# Altium footprint library TSM2306CX.PcbLib: 1 footprints
Each footprint in its own frame and in the unit in brackets; x right, y up, seen from the top. Pads: shape width x height; smd on the part's side, far side on the other; paste and mask are expansions set on the pad; w line width, h text height; cw(c..) or ccw(c..) is an arc to the next point about the centre after c.
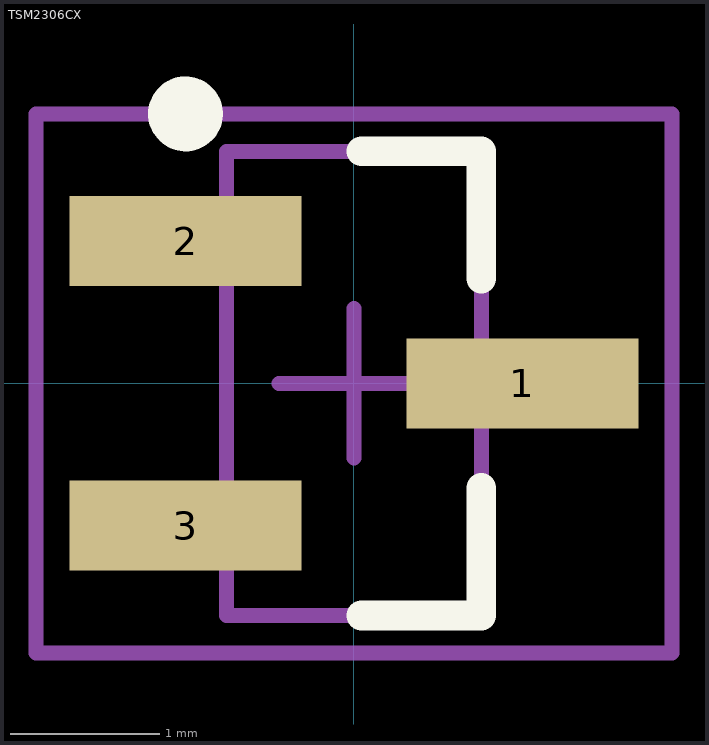
[diagram p0: the footprint, top view; thin cyan lines are the x and y axes]

## TSM2306CX [mm] "TAIWAN SEMICONDUCTOR - TSM2306CX - MOSFET,N CH,30V,3.5A,SOT23"
height 1.3
pads (3):
  rect 1.55x0.6 smd: 1(1.125,0) 2(-1.125,0.95) 3(-1.125,-0.95)
Top Overlay:
  circle w0.25: c-1.125,1.8 r0.125
  lines w0.2: 0.05,-1.55 0.85,-1.55 0.85,-0.7 ; 0.05,1.55 0.85,1.55 0.85,0.7
Mechanical 13:
  lines w0.1: -0.85,-1.55 0.85,-1.55 0.85,1.55 -0.85,1.55 -0.85,-1.55
Mechanical 15:
  lines w0.1: -0.5,0 0.5,0 ; 0,-0.5 0,0.5 ; -2.125,-1.8 2.125,-1.8 2.125,1.8 -2.125,1.8 -2.125,-1.8
3D body: height 1.3, standoff 0.05, extent -0.85,-1.55 0.85,1.55